# Altium footprint library power_jack.PcbLib: 1 footprints
Each footprint in its own frame and in the unit in brackets; x right, y up, seen from the top. Pads: shape width x height; smd on the part's side, far side on the other; paste and mask are expansions set on the pad; w line width, h text height; cw(c..) or ccw(c..) is an arc to the next point about the centre after c.
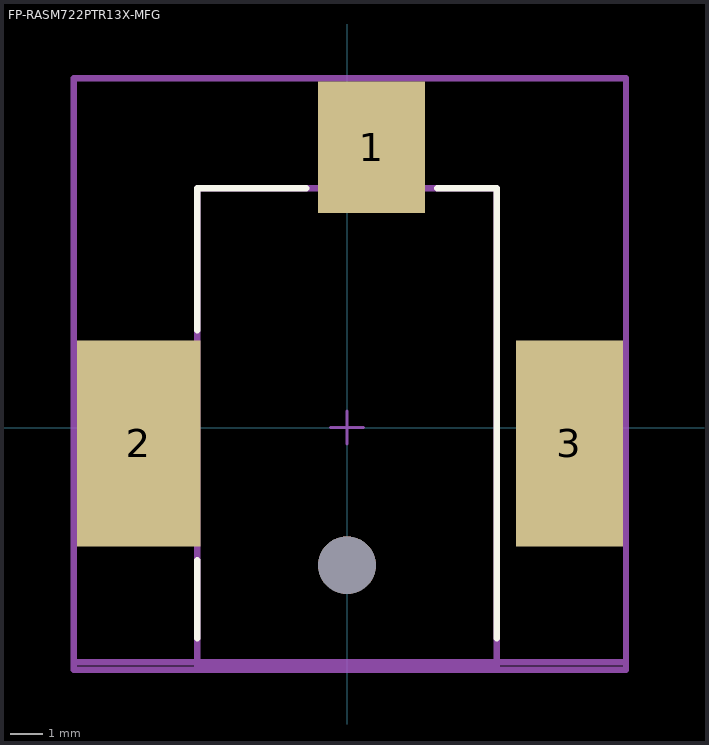
[diagram p0: the footprint, top view; thin cyan lines are the x and y axes]

## FP-RASM722PTR13X-MFG [mm]
pads (4):
  rect 3.3x4.06 smd paste+0 mask+0: 1(0.76,8.65)
  rect 3.81x6.35 smd paste+0 mask+0: 2(-6.43,-0.49)
  rect 3.3x6.35 smd paste+0 mask+0: 3(6.86,-0.49)
  round 1.78 hole 1.78 unplated paste-1000 mask+0: ""(0,-4.25)
Top Overlay:
  lines w0.2: -4.627,-6.5 -4.627,-4.1 ; -4.627,3 -4.627,7.377 -1.265,7.377 ; 2.785,7.377 4.627,7.377 4.627,-6.5
Mechanical 5:
  lines w0.2: -8.435,-7.477 8.61,-7.477 8.61,10.78 -8.435,10.78 -8.435,-7.477
  text ".Designator" at 0.087,1.839 h1
Mechanical 13:
  lines w0.2: -8.435,-7.25 8.61,-7.25 ; -4.627,-7.377 4.627,-7.377 4.627,7.377 -4.627,7.377 -4.627,-7.377
Mechanical 15:
  lines w0.2: -8.435,-7.477 8.61,-7.477 8.61,10.78 -8.435,10.78 -8.435,-7.477
Mechanical 16:
  lines w0.1: -0.5,0 0.5,0 ; 0,-0.5 0,0.5
3D body "Conn_Switchcraft_RASM722PTR13X_eec.STEP": height 0.25, standoff 0, extent -8.435,-7.477 8.61,10.78